# Altium footprint library standard_components.PcbLib: 19 footprints (part 1 of 2)
Each footprint in its own frame and in the unit in brackets; x right, y up, seen from the top. Pads: shape width x height; smd on the part's side, far side on the other; paste and mask are expansions set on the pad; w line width, h text height; cw(c..) or ccw(c..) is an arc to the next point about the centre after c.
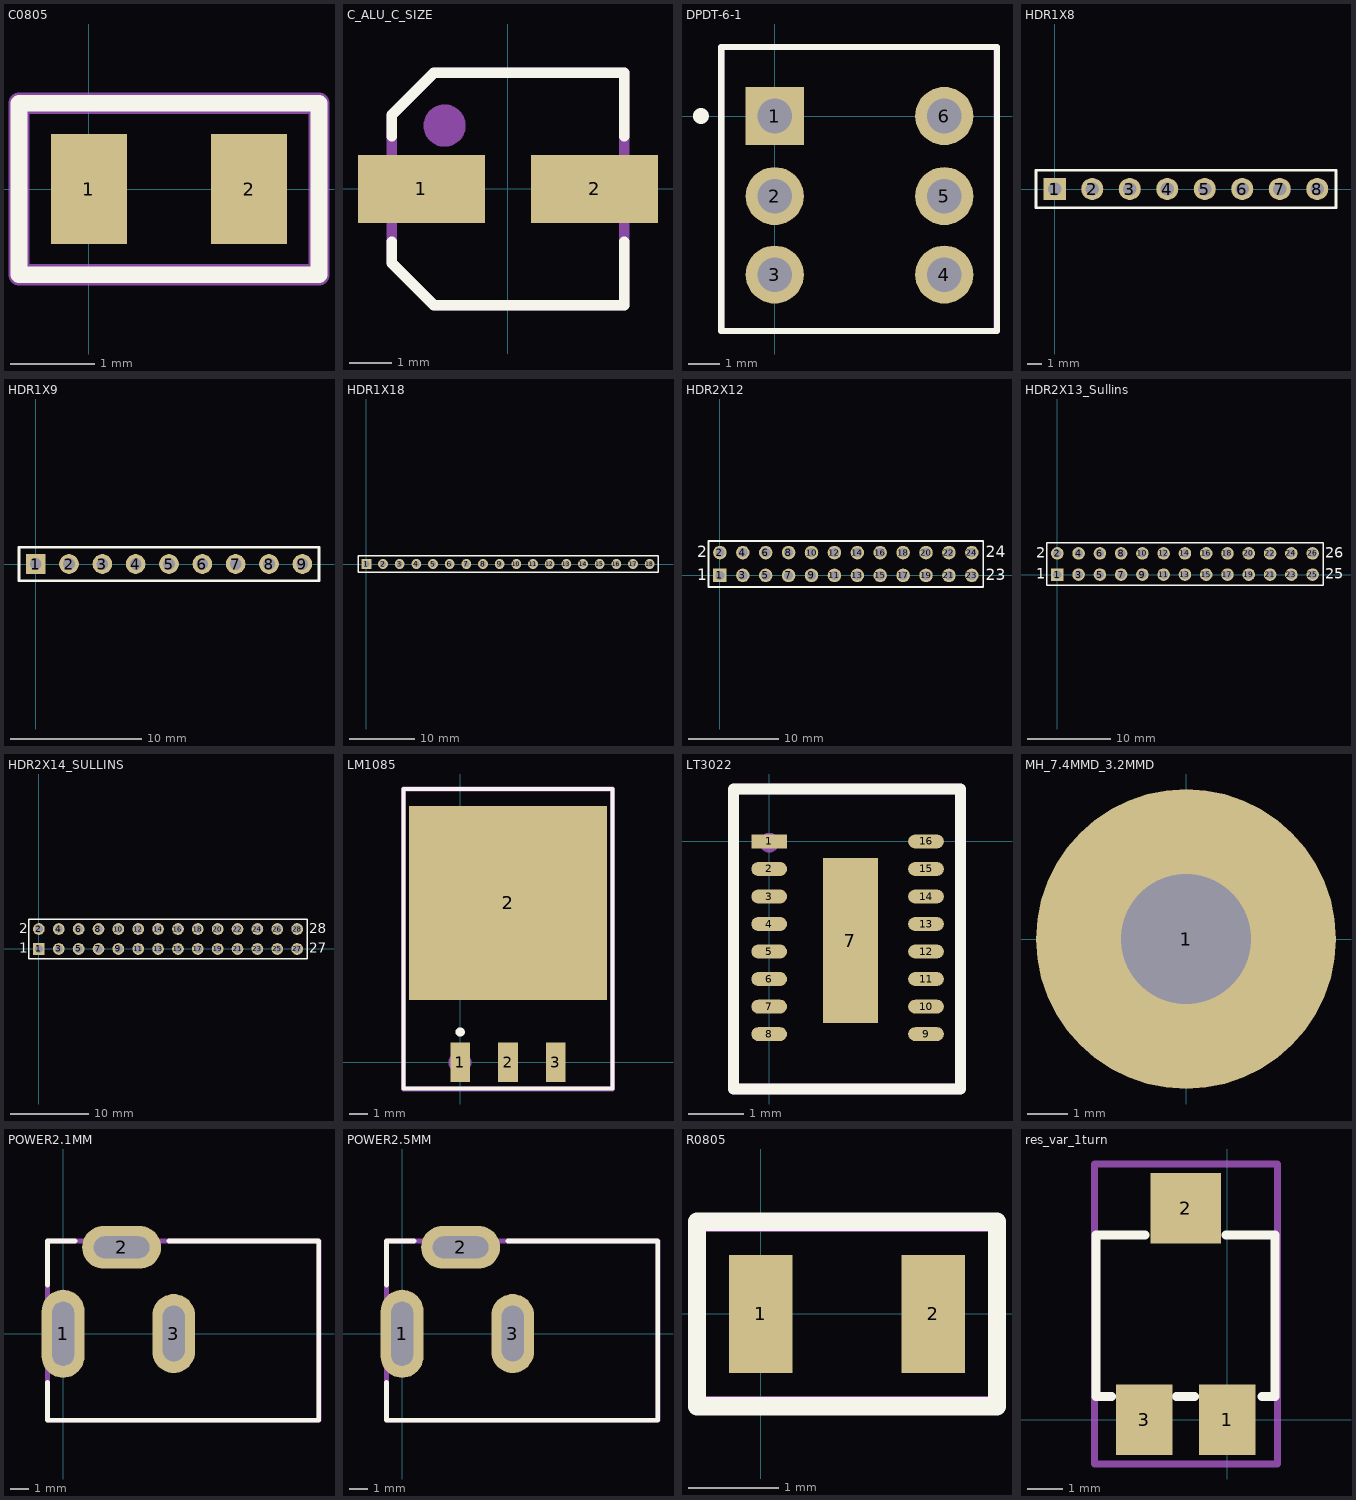
[diagram p0: the footprints below, top view; thin cyan lines are the x and y axes]

## C0805 [mm]
pads (2):
  rect 0.9x1.3 smd: 1(0,0) 2(1.9,0)
Top Overlay:
  lines w0.2: -0.828,-1.016 -0.828,1.016 2.728,1.016 2.728,-1.016 -0.828,-1.016
Mechanical 29:
  lines w0.254: -0.828,-1.016 -0.828,1.016 2.728,1.016 2.728,-1.016 -0.828,-1.016
  text ".Designator" at 0.406,-0.279 h0.6
3D body "CAPC2012X95N EIA 0805.step": height 0.96, standoff 0.01, extent -0.05,-0.6 1.95,0.6
3D body "CAPC2012X95N EIA 0805.step": height 1.46, standoff 0.51, extent -0.05,-0.6 1.95,0.6

## C_ALU_C_SIZE [mm]
pads (2):
  rect 3x1.6 smd: 1(-2.05,0) 2(2.05,0)
Top Overlay:
  lines w0.254: -2.75,-1.25 -2.75,-1.75 -1.75,-2.75 2.75,-2.75 2.75,-1.25 ; -2.75,1.25 -2.75,1.75 -1.75,2.75 2.75,2.75 2.75,1.25
Mechanical 29:
  circle w0.5: c-1.5,1.5 r0.25
  lines w0.254: -2.75,-1.75 -2.75,1.75 -1.75,2.75 2.75,2.75 2.75,-2.75 -1.75,-2.75 -2.75,-1.75
  text ".Designator" at -1.25,-0.75 h1.3
3D body "User Library-capacitor size C.step": height 5.41, standoff -0.01, extent -2.95,-2.65 2.95,2.65

## DPDT-6-1 [mm] "Switch; 6 Leads"
height 8.1
pads (6):
  rect 1.85x1.85 hole 1.1: 1(0,0)
  round 1.85 hole 1.1: 2(0,-2.55) 3(0,-5.05) 4(5.4,-5.05) 5(5.4,-2.55) 6(5.4,0)
Top Overlay:
  circle w0.25: c-2.35,0 r0.125
  lines w0.2: -1.7,-6.85 -1.7,2.2 7.08,2.2 7.08,-6.85 -1.7,-6.85
Mechanical 29:
  lines w0.2: -1.7,-6.85 -1.7,2.2 7.075,2.2 7.075,-6.85 -1.7,-6.85
  text ".Designator" at 2.25,-2.725 h1.52
3D body "TL2201xxYA.stp": height 14.21, standoff -3.49, extent -1.55,-6.75 6.95,2.05

## HDR1X8 [mm] "Connector; Header; 8 Position"
pads (8):
  rect 1.5x1.5 hole 0.9: 1(0,0)
  round 1.5 hole 0.9: 2(2.54,0) 3(5.08,0) 4(7.62,0) 5(10.16,0) 6(12.7,0) 7(15.24,0) 8(17.78,0)
Top Overlay:
  lines w0.2: -1.27,-1.27 19.05,-1.27 19.05,1.27 -1.27,1.27 -1.27,-1.27

## HDR1X9 [mm] "Connector; Header; 9 Position"
pads (9):
  rect 1.5x1.5 hole 0.9: 1(0,0)
  round 1.5 hole 0.9: 2(2.54,0) 3(5.08,0) 4(7.62,0) 5(10.16,0) 6(12.7,0) 7(15.24,0) 8(17.78,0) 9(20.32,0)
Top Overlay:
  lines w0.2: -1.27,-1.27 -1.27,1.27 21.59,1.27 21.59,-1.27 -1.27,-1.27

## HDR1X18 [mm] "Connector; Header; 18 Position"
pads (18):
  rect 1.5x1.5 hole 0.9: 1(0,0)
  round 1.5 hole 0.9: 2(2.54,0) 3(5.08,0) 4(7.62,0) 5(10.16,0) 6(12.7,0) 7(15.24,0) 8(17.78,0) 9(20.32,0) 10(22.86,0) 11(25.4,0) 12(27.94,0) 13(30.48,0) 14(33.02,0) 15(35.56,0) 16(38.1,0) 17(40.64,0) 18(43.18,0)
Top Overlay:
  lines w0.2: -1.27,-1.27 44.45,-1.27 44.45,1.27 0.635,1.27 -1.27,1.27 -1.27,-1.27
3D body "SS-118-G-2.stp": height 4.37, standoff -3.25, extent -1.27,-1.27 44.45,1.27

## HDR2X12 [mm] "Connector; Header; 12x2 Position"
pads (24):
  rect 1.5x1.5 hole 1.016: 1(0,0)
  round 1.5 hole 1.016: 2(0,2.54) 3(2.54,0) 4(2.54,2.54) 5(5.08,0) 6(5.08,2.54) 7(7.62,0) 8(7.62,2.54) 9(10.16,0) 10(10.16,2.54) 11(12.7,0) 12(12.7,2.54) 13(15.24,0) 14(15.24,2.54) 15(17.78,0) 16(17.78,2.54) 17(20.32,0) 18(20.32,2.54) 19(22.86,0) 20(22.86,2.54) 21(25.4,0) 22(25.4,2.54) 23(27.94,0) 24(27.94,2.54)
Top Overlay:
  lines w0.2: -1.27,-1.27 29.21,-1.27 29.21,3.81 -1.27,3.81 -1.27,-1.27
  text "24" at 29.464,2.032 h1.27
  text "23" at 29.464,-0.508 h1.27
  text "2" at -2.54,2.032 h1.27
  text "1" at -2.54,-0.508 h1.27

## HDR2X13_Sullins [mm] "PPPC132LFBN-RC"
pads (26):
  rect 1.5x1.5 hole 1.016: 1(0,0)
  round 1.5 hole 1.016: 2(0,2.54) 3(2.54,0) 4(2.54,2.54) 5(5.08,0) 6(5.08,2.54) 7(7.62,0) 8(7.62,2.54) 9(10.16,0) 10(10.16,2.54) 11(12.7,0) 12(12.7,2.54) 13(15.24,0) 14(15.24,2.54) 15(17.78,0) 16(17.78,2.54) 17(20.32,0) 18(20.32,2.54) 19(22.86,0) 20(22.86,2.54) 21(25.4,0) 22(25.4,2.54) 23(27.94,0) 24(27.94,2.54) 25(30.48,0) 26(30.48,2.54)
Top Overlay:
  lines w0.2: -1.27,-1.27 -1.27,3.81 31.75,3.81 31.75,-1.27 -1.27,-1.27
  text "2" at -2.54,2.032 h1.27
  text "1" at -2.54,-0.508 h1.27
  text "25" at 32.004,-0.508 h1.27
  text "26" at 32.004,2.032 h1.27

## HDR2X14_SULLINS [mm] "PPPC142LFBN-RC"
pads (28):
  rect 1.5x1.5 hole 1.016: 1(0,0)
  round 1.5 hole 1.016: 2(0,2.54) 3(2.54,0) 4(2.54,2.54) 5(5.08,0) 6(5.08,2.54) 7(7.62,0) 8(7.62,2.54) 9(10.16,0) 10(10.16,2.54) 11(12.7,0) 12(12.7,2.54) 13(15.24,0) 14(15.24,2.54) 15(17.78,0) 16(17.78,2.54) 17(20.32,0) 18(20.32,2.54) 19(22.86,0) 20(22.86,2.54) 21(25.4,0) 22(25.4,2.54) 23(27.94,0) 24(27.94,2.54) 25(30.48,0) 26(30.48,2.54) 27(33.02,0) 28(33.02,2.54)
Top Overlay:
  lines w0.2: -1.27,-1.27 34.29,-1.27 34.29,3.81 -1.27,3.81 -1.27,-1.27
  text "28" at 34.544,2.032 h1.27
  text "27" at 34.544,-0.508 h1.27
  text "1" at -2.54,-0.508 h1.27
  text "2" at -2.54,2.032 h1.27

## LM1085 [mm] "D2-PAK; 3 Leads; Body 14.4 (inc. leads) x 10.4 mm (LxW max)"
height 4.65
pads (4):
  rect 1.05x2.1 smd: 1(0,0) 2(2.54,0) 3(5.08,0)
  rect 10.5x10.3 smd: 2(2.54,8.45)
Top Overlay:
  circle w0.25: c0,1.6 r0.125
  lines w0.2: -3.01,-1.4 -3.01,-0.95 -3.01,13.5 -3.01,14.5 8.09,14.5 8.09,13.5 8.09,-0.95 8.09,-1.4 -3.01,-1.4
Mechanical 29:
  circle w0.6: c-0.01,-0.025 r0.305
  lines w0.254: -3.01,-1.425 8.09,-1.425 8.09,14.5 -3.01,14.5 -3.01,-1.425
  text ".Designator" at 1.365,6.05 h1.52
3D body "KTT0003B.stp": height 4.54, standoff 0, extent -2.54,-0.872 7.62,14.368

## LT3022 [mm]
pads (17):
  rect 0.65x0.25 smd: 1(0,0)
  oval 0.65x0.25 smd: 2(0,-0.5) 3(0,-1) 4(0,-1.5) 5(0,-2) 6(0,-2.5) 7(0,-3) 8(0,-3.5) 9(2.85,-3.5) 10(2.85,-3) 11(2.85,-2.5) 12(2.85,-2) 13(2.85,-1.5) 14(2.85,-1) 15(2.85,-0.5) 16(2.85,0)
  rect 1x3 smd: 7(1.475,-1.8)
Top Overlay:
  lines w0.2: -0.649,-4.497 3.476,-4.497 3.476,0.25 3.476,0.953 -0.649,0.953 -0.649,0.25 -0.649,-4.497
Mechanical 29:
  circle w0.254: c0.001,-0.022 r0.05
  lines w0.2: -0.649,-4.497 -0.649,0.928 -0.624,0.953 3.476,0.953 3.476,-4.497 -0.649,-4.497
  text ".Designator" at 0.305,-2.692 h1.52
3D body "DFN-16_DHC.step": height 0.8, standoff 0, extent -0.124,-4.297 2.976,0.803

## MH_7.4MMD_3.2MMD [mm]
pads (1):
  round 7.4 hole 3.2: 1(0,0)

## POWER2.1MM [mil]
height 318.9
pads (3):
  oval 92x190 hole 47 slot 138 at 90 deg: 1(0,0)
  oval 170x92 hole 47 slot 120 at 0 deg: 2(126,186.17)
  oval 92x170 hole 47 slot 120 at 90 deg: 3(238.19,0.55)
Top Overlay:
  lines w10: -33.46,-104.33 -33.46,-186.02 551,-186.02 551,199.8 227.36,199.8 ; -33.46,104.33 -33.46,199.8 25.59,199.8
Mechanical 29:
  lines w10: -33.46,-186.02 551.18,-186.02 551.18,199.8 -33.46,199.8 -33.46,-186.02
  text ".Designator" at 110,-19 h60
3D body "CUI_PJ-002AH.step": height 433.57, standoff -137.29, extent -24.8,-178.35 542.12,191.73

## POWER2.5MM [mil]
height 318.9
pads (3):
  oval 92x190 hole 47 slot 138 at 90 deg: 1(0,0)
  oval 170x92 hole 47 slot 120 at 0 deg: 2(126,186.17)
  oval 92x170 hole 47 slot 120 at 90 deg: 3(238.19,0.55)
Top Overlay:
  lines w10: -33.46,-104.33 -33.46,-186.02 551,-186.02 551,199.8 227.36,199.8 ; -33.46,104.33 -33.46,199.8 25.59,199.8
Mechanical 29:
  lines w10: -33.46,-186.02 551.18,-186.02 551.18,199.8 -33.46,199.8 -33.46,-186.02
  text ".Designator" at 67,-27 h60
3D body "CUI_PJ-002BH.step": height 433.57, standoff -137.29, extent -24.6,-177.16 542.32,192.91

## R0805 [mm]
pads (2):
  rect 0.7x1.3 smd: 1(0,0) 2(1.9,0)
Top Overlay:
  lines w0.2: -0.701,-1.016 -0.701,1.016 2.601,1.016 2.601,-1.016 -0.701,-1.016
Mechanical 29:
  lines w0.2: -0.7,-1 2.6,-1 2.6,1 -0.7,1 -0.7,-1
  text ".Designator" at 0.381,-0.33 h0.8
3D body "User Library-Chip Resistor2.step": height 0.71, standoff 0.01, extent -0.05,-0.6 1.95,0.6

## res_var_1turn [mm]
pads (3):
  rect 1.6x2 smd: 1(0,0) 3(-2.35,0)
  rect 2x2 smd: 2(-1.175,6)
Top Overlay:
  lines w0.254: -3.271,0.666 -3.715,0.666 -3.715,5.238 -2.318,5.238 ; -1.429,0.666 -0.921,0.666 ; -0.032,5.238 1.365,5.238 1.365,0.666 0.984,0.666
Mechanical 29:
  circle w0.4: c0,-0.073 r0.2
  lines w0.2: -3.75,-1.248 1.425,-1.248 1.425,7.252 -3.75,7.252 -3.75,-1.248
  text ".Designator" at -1.325,2.752 h1.52
3D body "ST-4ETB2k_(202).stp": height 2.36, standoff 0.01, extent -3.675,-0.148 1.325,6.052